# Altium schematic symbol library DDR5_Nucleo_Shield_Symbols.SchLib: 37 symbols
Pins are listed as number, name and electrical type; pins without a type are passive.

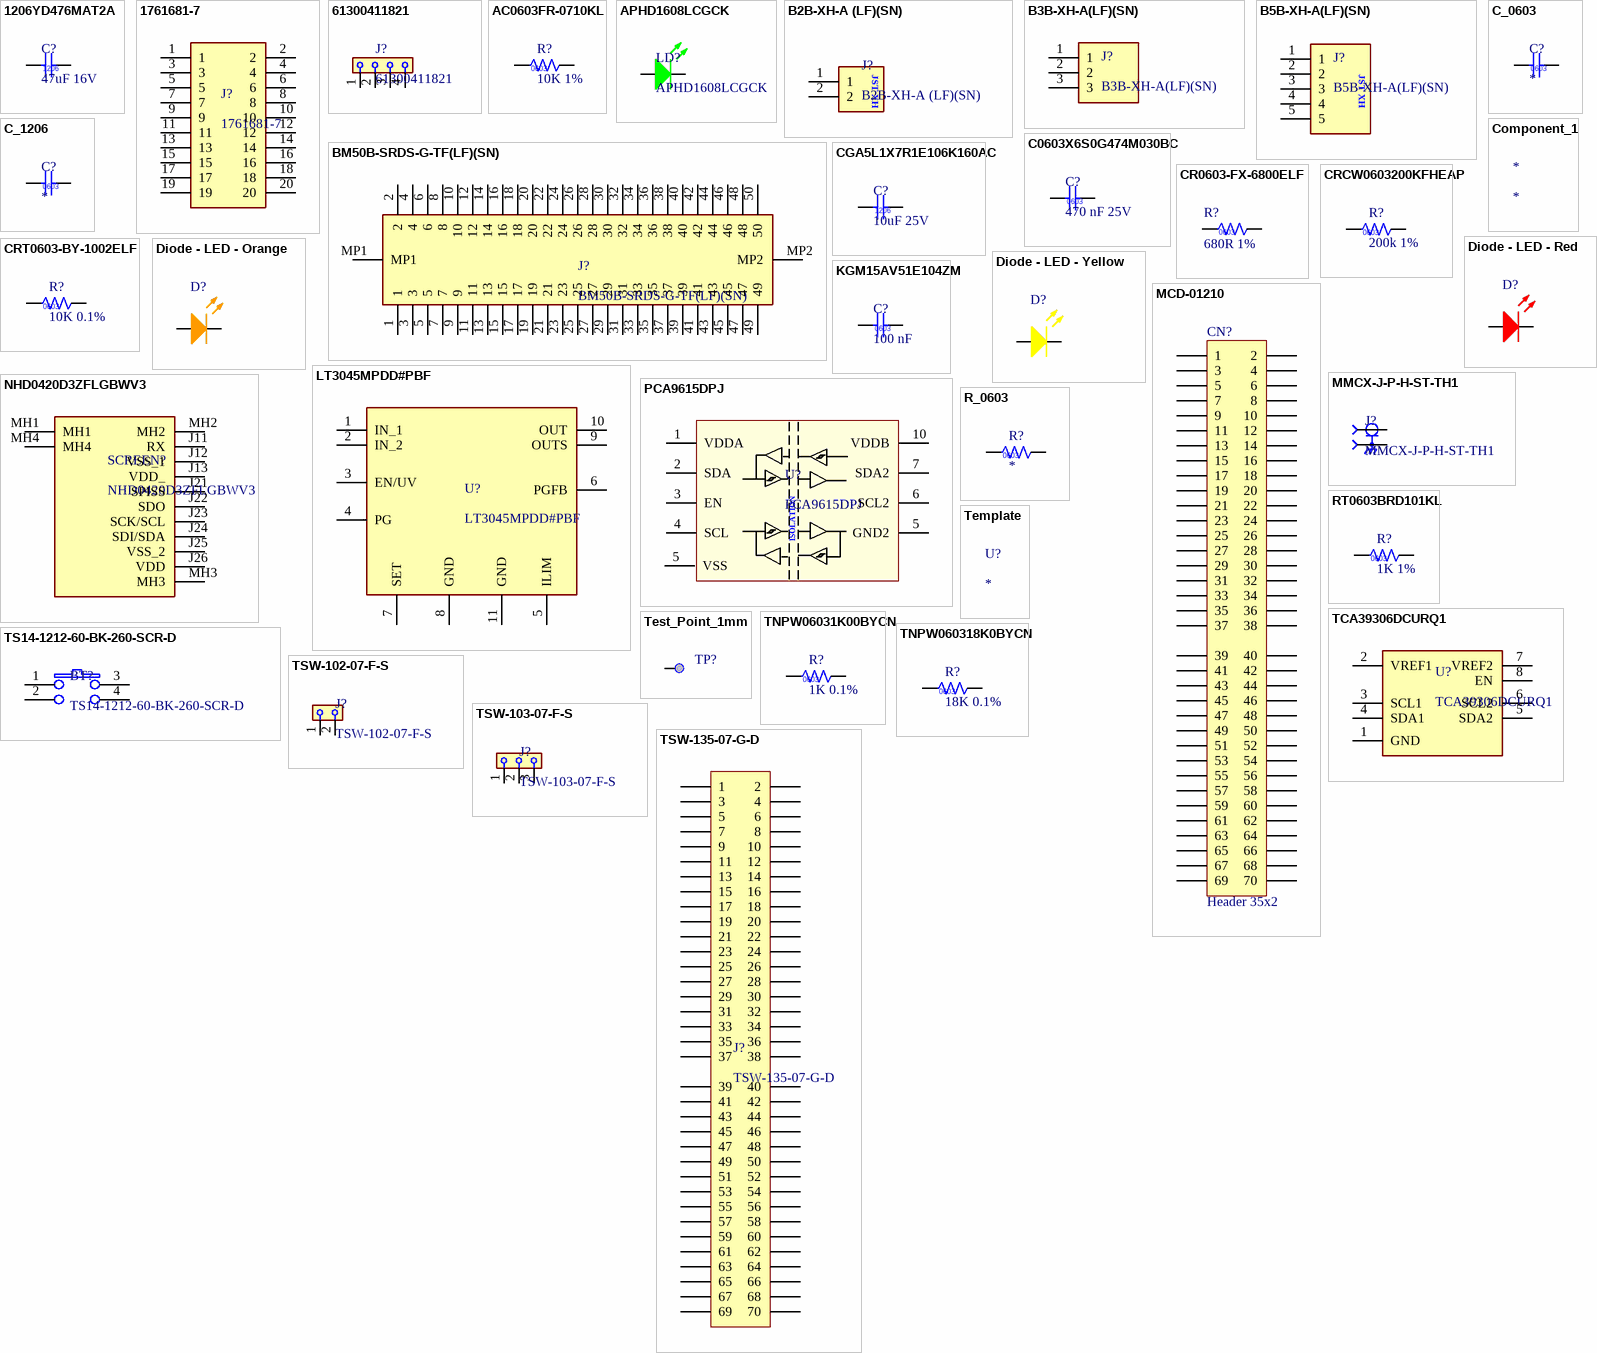
[diagram p0: symbols 1206YD476MAT2A to TSW-135-07-G-D]

## 1206YD476MAT2A
designator C?, comment 47uF 16V
Condensadores de cerámica multicapa (MLCC- SMD/SMT) KGM31HR51C476MU NEW GLOBAL PN 16V 47uF X A 581-KGM31HR51C476MU; Manufacturer: KYOCERA AVX; Manufacturer Part Number: 1206YD476MAT2A; DrownBy: Xavier Rocher; Package: 1206; Supplier 1: Digikey; Supplier  Part Number 1: 4155127; Supplier 2: Mouser; Supplier  Part Number 2: 581-1206YD476MAT2A; Automotive: https://datasheets.kyocera-avx.com/cx5r-KGM.pdf; Value: 47uF 16V
footprint CC/NM 1206 (Chip Capacitor, 2-Leads, Body 3,1x1,6mm, IPC High Density)
pins: 1, 2

## 1761681-7
designator J?
Headers & Wire Housings IDC CONNECTOR; Manufacturer: TE Connectivity; DrownBy: Xavier Rocher; Datasheet: https://www.te.com/commerce/DocumentDelivery/DDEController?Action=srchrtrv&DocNm=1761681&DocType=Customer+Drawing&DocLang=English&PartCntxt=1761681-7&DocFormat=pdf; Package: 0603; Supplier 1: Farnell; Supplier  Part Number 1: 4299113; Supplier 2: Mouser; Supplier  Part Number 2: 571-1761681-7; Manufacturer Part Number: 1761681-7; Value: 1761681-7
pins: 1, 2, 3, 4, 5, 6, 7, 8, 9, 10, 11, 12, 13, 14, 15, 16, 17, 18, 19, 20

## 61300411821
designator J?
2.54mm Pin Header 4 pins; Manufacturer: SAMTEC; Manufacturer Part Number: Wurth Elektronik; DrownBy: Xavier Rocher; Datasheet: https://www.we-online.com/components/products/datasheet/61300411821.pdf; Package: 0603; Supplier 1: Farnell; Supplier  Part Number 1: 2505043; Supplier 2: Mouser; Supplier  Part Number 2: 710-61300411821; Value: 61300411821
footprint 61300411821
pins: 1, 2, 3, 4

## AC0603FR-0710KL
designator R?, comment 10K 1%
Manufacturer: YAGEO; Manufacturer Part Number: AC0603FR-0710KL; DrownBy: Xavier Rocher; Package: 0603; Supplier 1: Farnell; Supplier  Part Number 1: 2363472; Supplier 2: Mouser; Supplier  Part Number 2: 603-AC0603FR-0710KL; Value: 10K 1%
footprint CC/NM 0603 (Chip Capacitor, 2-Leads, Body 1,6x0,8mm, IPC High Density)
pins: 1, 2

## APHD1608LCGCK
designator LD?
Green Light Emitting Diode; Manufacturer: Kingbright; DrownBy: Xavier Rocher; Datasheet: https://www.kingbrightusa.com/images/catalog/SPEC/APHD1608LCGCK.pdf; Package: 0603; Supplier 1: Digikey; Supplier  Part Number 1: 754-2031-2-ND; Supplier 2: Mouser; Supplier  Part Number 2: 604-APHD1608LCGCK; Manufacturer Part Number: APHD1608LCGCK; Automotive: No; Value: APHD1608LCGCK
footprint LED/0603/GREEN (LED 0603 Package Green Colour)
pins: 1 A, 2 K

## B2B-XH-A (LF)(SN)
designator J?
Alojamientos de cables y cabecera 2.54MM CLASSIC PCB HDR STRIP; Manufacturer: JST; DrownBy: Xavier Rocher; Datasheet: https://www.farnell.com/datasheets/2057209.pdf?_gl=1*1fl0mut*_gcl_aw*R0NMLjE3NzI0NTg0MDAuQ2p3S0NBaUFoNVhOQmhBQUVpd0FfQnU4RlFpaGh0aTJCR0F1SXBlQ2pXMWtFYmlZc2JraDRpajgydjZyT2lxVUUtZHBLLW80X0NoNy1Sb0NSZjhRQXZEX0J3RQ..*_gcl_au*MjEwMjY0Mzg0MC4xNzcyNDM5MTYx; Package: XH; Supplier 1: Farnell; Supplier  Part Number 1: 1516276; Supplier 2: Mouser; Supplier  Part Number 2: 306-B2BXHALFSNP; Manufacturer Part Number: B2B-XH-A (LF)(SN); Value: B2B-XH-A (LF)(SN)
footprint JST_XH_2V
pins: 1, 2
text: JST XH

## B3B-XH-A(LF)(SN)
designator J?
Alojamientos de cables y cabecera XH HEADER (TOP); Manufacturer: JST; DrownBy: Xavier Rocher; Package: XH; Supplier 1: Farnell; Supplier  Part Number 1: 1516277; Supplier 2: Mouser; Supplier  Part Number 2: 306-B3BXHALFSNP; Manufacturer Part Number: B3B-XH-A(LF)(SN); Automotive: https://www.mouser.es/datasheet/3/1070/1/eXH.pdf; Value: B3B-XH-A(LF)(SN)
footprint JST_XH_3V
pins: 1, 2, 3

## B5B-XH-A(LF)(SN)
designator J?
Alojamientos de cables y cabecera XH HEADER (TOP); Manufacturer: JST; DrownBy: Xavier Rocher; Package: XH; Supplier 1: Farnell; Supplier  Part Number 1: 1516281; Supplier 2: Mouser; Supplier  Part Number 2: 306-B5BXHALFSN; Manufacturer Part Number: B5B-XH-A(LF)(SN); Automotive: https://www.mouser.es/datasheet/3/1070/1/eXH.pdf; Value: B5B-XH-A(LF)(SN)
footprint JST_XH_5V
pins: 1, 2, 3, 4, 5
text: JST XH

## BM50B-SRDS-G-TF(LF)(SN)
designator J?
Manufacturer: JST; DrownBy: Xavier Rocher; Datasheet: https://www.farnell.com/datasheets/2085439.pdf?_gl=1*149c80b*_gcl_aw*R0NMLjE3NzI0MzkxNjIuQ2p3S0NBaUFoNVhOQmhBQUVpd0FfQnU4RlZpZGN3SFZkTmhUaGpab0lwT1FoQkFLZGxhWW9IVVdZQjN2WlhqdGU5dFd2US1sQTZFMy14b0NDLUVRQXZEX0J3RQ..*_gcl_au*MjEwMjY0Mzg0MC4xNzcyNDM5MTYx; Package: BM50B Series; Supplier 1: Farnell; Supplier  Part Number 1: 2399332; Supplier 2: Mouser; Supplier  Part Number 2: 306-BM50BSRDSGTFLFSN; Manufacturer Part Number: BM50B-SRDS-G-TF(LF)(SN); Value: BM50B-SRDS-G-TF(LF)(SN)
footprint BM50BSRDSGTFLFSN
pins: 1, 2, 3, 4, 5, 6, 7, 8, 9, 10, 11, 12, 13, 14, 15, 16, 17, 18, 19, 20, 21, 22, 23, 24, 25, 26, 27, 28, 29, 30, 31, 32, 33, 34, 35, 36, 37, 38, 39, 40, 41, 42, 43, 44, 45, 46, 47, 48, 49, 50, MP1, MP2

## C0603X6S0G474M030BC
designator C?, comment 470 nF 25V
Condensadores de cerámica multicapa (MLCC- SMD/SMT) 0201 4VDC 0.47uF 20% X6S 0.3mm; Manufacturer: TDK; Manufacturer Part Number: C0603X6S0G474M030BC; DrownBy: Xavier Rocher; Datasheet: https://product.tdk.com/system/files/dam/doc/product/capacitor/ceramic/mlcc/catalog/mlcc_commercial_general_en.pdf; Package: 0603; Supplier 1: Digikey; Supplier  Part Number 1: 4171987; Supplier 2: Mouser; Supplier  Part Number 2: 810-C0603X6S0G474MBC; Value: 470 nF 25V
footprint CC/NM 0603 (Chip Capacitor, 2-Leads, Body 1,6x0,8mm, IPC High Density)
pins: 1, 2

## C_0603
designator C?
Manufacturer: Kingbright; DrownBy: Xavier Rocher; Datasheet: https://www.mouser.es/datasheet/3/308/1/APHD1608LCGCK.pdf; Package: 0603; Supplier 1: Digikey; Supplier  Part Number 1: 754-2031-2-ND; Supplier 2: Mouser; Supplier  Part Number 2: 604-APHD1608LCGCK; Value: *
pins: 1, 2

## C_1206
designator C?
DrownBy: Xavier Rocher; Package: 1206; Supplier 1: Digikey; Supplier 2: Mouser; Value: *
pins: 1, 2
text: 0603

## CGA5L1X7R1E106K160AC
designator C?, comment 10uF 25V
Condensadores de cerámica multicapa (MLCC- SMD/SMT) CGA 1206 25V 10uF X7R 10% AEC-Q200; Manufacturer: TDK; Manufacturer Part Number: CGA5L1X7R1E106K160AC; DrownBy: Xavier Rocher; Package: 1206; Supplier 1: Digikey; Supplier  Part Number 1: 2458327; Supplier 2: Mouser; Supplier  Part Number 2: 810-CGA5L1X7R1E106K; Automotive: https://www.farnell.com/datasheets/4520416.pdf?_gl=1*1qw350c*_gcl_aw*R0NMLjE3NzI0NTg0MDAuQ2p3S0NBaUFoNVhOQmhBQUVpd0FfQnU4RlFpaGh0aTJCR0F1SXBlQ2pXMWtFYmlZc2JraDRpajgydjZyT2lxVUUtZHBLLW80X0NoNy1Sb0NSZjhRQXZEX0J3RQ..*_gcl_au*MjEwMjY0Mzg0MC4xNzcyNDM5MTYx; Value: 10uF 25V
footprint CC/NM 1206 (Chip Capacitor, 2-Leads, Body 3,1x1,6mm, IPC High Density)
pins: 1, 2

## Component_1
designator *

## CR0603-FX-6800ELF
designator R?, comment 680R 1%
Resistores de película gruesa - SMD 680 ohm 1%; Manufacturer: BOURNS; Manufacturer Part Number: CR0603-FX-6800ELF; DrownBy: Xavier Rocher; Datasheet: https://eu.mouser.com/datasheet/3/40/1/cr.pdf; Package: 0603; Supplier 1: Farnell; Supplier  Part Number 1: 4014380; Supplier 2: Mouser; Supplier  Part Number 2: 652-CR0603FX-6800ELF; Automotive: No; Value: 680R 1%
footprint CC/NM 0603 (Chip Capacitor, 2-Leads, Body 1,6x0,8mm, IPC High Density)
pins: 1, 2

## CRCW0603200KFHEAP
designator R?, comment 200k 1%
Resistores de película gruesa - SMD D11/CRCW0603-P 50 200K 1% ET1 e3; Manufacturer Part Number: CRCW0603200KFHEAP; DrownBy: Xavier Rocher; Package: 0603; Supplier 1: Digikey; Supplier  Part Number 1: CRCW0603200KFHEAP-ND; Supplier 2: Mouser; Supplier  Part Number 2: 71-CRCW0603200KFHEAP; Value: 200k 1%
footprint CC/NM 0603 (Chip Capacitor, 2-Leads, Body 1,6x0,8mm, IPC High Density)
pins: 1, 2

## CRT0603-BY-1002ELF
designator R?, comment 10K 0.1%
Thin Film Resistors - SMD 1/10watts 10K .1%; Manufacturer: Bourns; Manufacturer Part Number: CRT0603-BY-1002ELF; DrownBy: Xavier Rocher; Datasheet: https://4donline.ihs.com/images/VipMasterIC/IC/VISH/VISH-S-A0025054536/VISH-S-A0025054537-1.pdf?hkey=6D3A4C79FDBF58556ACFDE234799DDF0; Package: 0603; Supplier 1: Farnell; Supplier  Part Number 1: 2008310; Supplier 2: Mouser; Supplier  Part Number 2: 652-CRT0603BY1002ELF; Automotive: Yes; Value: 10K 0.1%
footprint CC/NM 0603 (Chip Capacitor, 2-Leads, Body 1,6x0,8mm, IPC High Density)
pins: 1, 2

## Diode - LED - Orange
designator D?  (value not drawn)
Light Emitting Diode
pins: 1 A, 2 K

## Diode - LED - Red
designator D?  (value not drawn)
Light Emitting Diode
pins: 1 A, 2 K

## Diode - LED - Yellow
designator D?  (value not drawn)
Light Emitting Diode
pins: 1 A, 2 K

## KGM15AV51E104ZM
designator C?, comment 100 nF
/ 0.1 µF -20%, +80% 25V Ceramic Capacitor Y5V (F) 0603 (1608 Metric); Manufacturer: KYOCERA AVX; Manufacturer Part Number: KGM15AV51E104ZM; DrownBy: Xavier Rocher; Datasheet: https://datasheets.kyocera-avx.com/KGM_Y5V.pdf; Package: 0603; Supplier 1: Digikey; Supplier  Part Number 1: 581-KGM15AV51E104ZM; Supplier 2: Mouser; Supplier  Part Number 2: 478-KGM15AV51E104ZMTR-ND; Value: 100 nF
footprint CC/NM 0603 (Chip Capacitor, 2-Leads, Body 1,6x0,8mm, IPC High Density)
pins: 1, 2

## LT3045MPDD#PBF
designator U?
20V, 500mA, Ultralow Noise, Ultrahigh PSRR Linear Regulator; Manufacturer: Analog Devices; DrownBy: Xavier Rocher; Datasheet: https://www.analog.com/media/en/technical-documentation/data-sheets/lt3045.pdf; Package: DFN-10; Supplier 1: Farnell; Supplier  Part Number 1: 4027559; Supplier 2: Mouser; Supplier  Part Number 2: 584-LT3045MPDD#PBF; Manufacturer Part Number: LT3045MPDD#PBF; Automotive: Yes; Value: LT3045MPDD#PBF
footprint SON50P300X300X80-11N
pins: 1 IN_1 (power), 2 IN_2 (power), 3 EN/UV, 4 PG, 5 ILIM, 6 PGFB, 7 SET, 8 GND (power), 9 OUTS, 10 OUT, 11 GND (power)

## MCD-01210
designator CN?, comment Header 35x2
Header, 35x2, 2,54mm, VR, TH, Height 5.84mm/2.54mm; Internal_Part_Number: MCD-01210; Part_Type: Connector; Manufacturer_Part_Number: TSW-135-07-x-D; Manufacturer: SAMTEC; Provided_By: SUBCO; Status: Released; ComponentLink1Description: Datasheet; ComponentLink1URL: http://tunmcdsvn.tun.st.com/Component_Datasheet_Library/Trunk/Connectors/Samtec_TSW-HTSW-series; ECCN_US: n/a; ECCN_EU: n/a; Value: Header 35x2
footprint CON_SAMTEC_TSW-135-07-X-D
pins: 1, 2, 3, 4, 5, 6, 7, 8, 9, 10, 11, 12, 13, 14, 15, 16, 17, 18, 19, 20, 21, 22, 23, 24, 25, 26, 27, 28, 29, 30, 31, 32, 33, 34, 35, 36, 37, 38, 39, 40, 41, 42, 43, 44, 45, 46, 47, 48, 49, 50, 51, 52, 53, 54, 55, 56, 57, 58, 59, 60, 61, 62, 63, 64, 65, 66, 67, 68, 69, 70
1 alternate drawing of the same symbol

## MMCX-J-P-H-ST-TH1
designator J?
RF Connectors / Coaxial Connectors 50 OHM MMCX JACK OR PLUG; Manufacturer: Samtec Inc.; DrownBy: Xavier Rocher; Datasheet: https://mm.digikey.com/Volume0/opasdata/d220001/medias/docus/6129/mmcx-j-p-x-st-th1-mkt.pdf; Package: 0603; Supplier 1: Digikey; Supplier  Part Number 1: SAM10617-ND; Supplier 2: Mouser; Supplier  Part Number 2: 200-MMCXJPHSTTH1; Manufacturer Part Number: MMCX-J-P-H-ST-TH1; Value: MMCX-J-P-H-ST-TH1
footprint SAMTEC_MMCX-J-P-H-ST-TH1
pins: 1, S1 2, S2 2, S3 2, S4 2

## NHD0420D3ZFLGBWV3
designator SCREEN?
LCD Character Display Modules & Accessories 4 x 20 STN-GRAY 98.0 x 60.0; Manufacturer: Newhaven Display; DrownBy: Xavier Rocher; Datasheet: https://newhavendisplay.com/content/specs/NHD-0420D3Z-FL-GBW-V3.pdf; Package: 0603; Supplier 1: RSComponents; Supplier  Part Number 1: https://es.rs-online.com/web/p/displays-monocromos-lcd/0205024; Supplier 2: Mouser; Supplier  Part Number 2: 763-0420D3ZFLGBW-V3; Manufacturer Part Number: NHD0420D3ZFLGBWV3; Value: NHD0420D3ZFLGBWV3
footprint NHD0420D3ZFLGBWV3
pins: J11 RX, J12 VSS_1, J13 VDD_, J21 SPISS, J22 SDO, J23 SCK/SCL, J24 SDI/SDA, J25 VSS_2, J26 VDD, MH1, MH2, MH3, MH4

## PCA9615DPJ
designator U?
2-channel multipoint Fast-mode Plus differential I2C-bus / buffer with hot-swap logic; Datasheet: https://www.nxp.com/docs/en/data-sheet/PCA9615.pdf; Manufacturer Part Number: PCA9615DPJ; Supplier 1: Farnell; Supplier 2: Mouser; Supplier Part Number 1: 2775967; Supplier Part Number 2: 771-PCA9615DPJ; Value: PCA9615DPJ
footprint SOIC127P1030X265-16N (SOIC, 16-Leads, Body 10,30x7,50mm, Pitch 1,27mm, IPC Medium Density)
pins: 1 VDDA, 2 SDA, 3 EN, 4 SCL, 5 GND2, 5 VSS, 6 SCL2, 7 SDA2, 10 VDDB
text: ISOLATION

## R_0603
designator R?
DrownBy: Xavier Rocher; Package: 0603; Supplier 1: Farnell; Supplier 2: Mouser; Value: *
footprint CC/NM 0603 (Chip Capacitor, 2-Leads, Body 1,6x0,8mm, IPC High Density)
pins: 1, 2

## RT0603BRD101KL
designator R?, comment 1K 1%
Manufacturer: YAGEO; Manufacturer Part Number: RT0603BRD101KL; DrownBy: Xavier Rocher; Package: 0603; Supplier 1: Farnell; Supplier  Part Number 1: 3496584; Supplier 2: Mouser; Supplier  Part Number 2: 603-RT0603BRD101KL; Value: 1K 1%
footprint CC/NM 0603 (Chip Capacitor, 2-Leads, Body 1,6x0,8mm, IPC High Density)
pins: 1, 2

## TCA39306DCURQ1
designator U?
Manufacturer: TI; DrownBy: Xavier Rocher; Datasheet: https://www.ti.com/lit/ds/symlink/tca39306-q1.pdf?ts=1772335428960; Package: VSSOP-8; Supplier 1: Digikey; Supplier  Part Number 1: 296-TCA39306DCURQ1TR-ND; Supplier 2: Mouser; Supplier  Part Number 2: 595-TCA39306DCURQ1; Manufacturer Part Number: TCA39306DCURQ1; Automotive: Yes; Value: TCA39306DCURQ1
footprint SOP50P310X90-8N
pins: 1 GND, 2 VREF1, 3 SCL1, 4 SDA1, 5 SDA2, 6 SCL2, 7 VREF2, 8 EN

## Template
designator U?
DrownBy: Xavier Rocher; Package: 0603; Supplier 1: Farnell; Supplier 2: Mouser; Value: *

## Test_Point_1mm
designator TP?, comment Test Point  (value not drawn)  (no BOM)
Test Point 1mm; Internal_Part_Number: MCD-00074; Part_Type: Mechanical; Status: Released; Manufacturer_Part_Number: n/a; Manufacturer: n/a; ComponentLink1Description: Datasheet; ComponentLink1URL: http://na; Provided_By: n/a; ECCN_US: n/a; ECCN_EU: n/a
footprint TP_SMD_1MM
pins: 1

## TNPW06031K00BYCN
designator R?, comment 1K 0.1%
Resistores de película fina - SMD TNPW-0603 1K 0.1% T-13 R52; Manufacturer: Vishay; Manufacturer Part Number: TNPW06031K00BYCN; DrownBy: Xavier Rocher; Datasheet: https://4donline.ihs.com/images/VipMasterIC/IC/VISH/VISH-S-A0025054536/VISH-S-A0025054537-1.pdf?hkey=6D3A4C79FDBF58556ACFDE234799DDF0; Package: 0603; Supplier 1: Digikey; Supplier  Part Number 1: TNPW06031K00BYCN-ND; Supplier 2: Mouser; Supplier  Part Number 2: 71-TNPW060318K0BYCN; Automotive: Yes; Value: 1K 0.1%
footprint CC/NM 0603 (Chip Capacitor, 2-Leads, Body 1,6x0,8mm, IPC High Density)
pins: 1, 2

## TNPW060318K0BYCN
designator R?, comment 18K 0.1%
Resistencia SMD de Tipo Chip, 18 kohm, ± 0.1%, 125 mW, 0603 [Métrica 1608], Película Delgada; Manufacturer: Vishay; Manufacturer Part Number: TNPW060318K0BYCN; DrownBy: Xavier Rocher; Datasheet: https://4donline.ihs.com/images/VipMasterIC/IC/VISH/VISH-S-A0025054536/VISH-S-A0025054537-1.pdf?hkey=6D3A4C79FDBF58556ACFDE234799DDF0; Package: 0603; Supplier 1: Farnell; Supplier  Part Number 1: 4140054; Supplier 2: Mouser; Supplier  Part Number 2: 71-TNPW060318K0BYCN; Automotive: Yes; Value: 18K 0.1%
footprint CC/NM 0603 (Chip Capacitor, 2-Leads, Body 1,6x0,8mm, IPC High Density)
pins: 1, 2

## TS14-1212-60-BK-260-SCR-D
designator BT?
Interruptores táctiles 12 x 12 mm 6 mm 260 gf Short Crimped Black Through Hole SPST; Manufacturer: Same Sky; DrownBy: Xavier Rocher; Datasheet: https://www.mouser.es/datasheet/3/6118/1/ts14.pdf; Package: Through Hole; Supplier 1: Digikey; Supplier  Part Number 1: 2223-TS14-1212-60-BK-260-SCR-D-ND; Supplier 2: Mouser; Supplier  Part Number 2: 179-TS14121260260SCR; Manufacturer Part Number: TS14-1212-60-BK-260-SCR-D; Value: TS14-1212-60-BK-260-SCR-D
footprint TS14121260BK260SCRD
pins: 1, 2, 3, 4

## TSW-102-07-F-S
designator J?
Alojamientos de cables y cabecera 2.54MM CLASSIC PCB HDR STRIP; Manufacturer: SAMTEC; DrownBy: Xavier Rocher; Datasheet: https://www.farnell.com/datasheets/1701645.pdf?_gl=1*1o3ly18*_gcl_aw*R0NMLjE3NzI0NTg0MDAuQ2p3S0NBaUFoNVhOQmhBQUVpd0FfQnU4RlFpaGh0aTJCR0F1SXBlQ2pXMWtFYmlZc2JraDRpajgydjZyT2lxVUUtZHBLLW80X0NoNy1Sb0NSZjhRQXZEX0J3RQ..*_gcl_au*MjEwMjY0Mzg0MC4xNzcyNDM5MTYx; Package: 0603; Supplier 1: Farnell; Supplier  Part Number 1: 2779661; Supplier 2: Mouser; Supplier  Part Number 2: 200-TSW10207FS; Manufacturer Part Number: TSW-102-07-F-S; Value: TSW-102-07-F-S
footprint HEADER/VERT/1X2/M/P2.54 (Connector; Header; Pitch 2.54mm; 2 Position Male)
pins: 1, 2

## TSW-103-07-F-S
designator J?
Pin Header, Unshrouded, Board-to-Board, 2.54 mm, 1 Rows, 3 Contacts, Through Hole, TSW; Manufacturer: SAMTEC; DrownBy: Xavier Rocher; Datasheet: https://www.farnell.com/datasheets/1701645.pdf?_gl=1*1o3ly18*_gcl_aw*R0NMLjE3NzI0NTg0MDAuQ2p3S0NBaUFoNVhOQmhBQUVpd0FfQnU4RlFpaGh0aTJCR0F1SXBlQ2pXMWtFYmlZc2JraDRpajgydjZyT2lxVUUtZHBLLW80X0NoNy1Sb0NSZjhRQXZEX0J3RQ..*_gcl_au*MjEwMjY0Mzg0MC4xNzcyNDM5MTYx; Package: 0603; Supplier 1: Farnell; Supplier  Part Number 1: 2505043; Supplier 2: Mouser; Supplier  Part Number 2: 200-TSW10307FS; Manufacturer Part Number: TSW-103-07-F-S; Value: TSW-103-07-F-S
footprint HEADER/VERT/1X3/M/P2.54 (Connector; Header; Pitch 2.54mm; 3 Position Male)
pins: 1, 2, 3

## TSW-135-07-G-D
designator J?
Header, 35x2, 2,54mm, VR, TH, Height 5.84mm/2.54mm; Manufacturer: Samtec; DrownBy: Xavier Rocher; Package: 0603; Supplier 1: Farnell; Supplier  Part Number 1: 3664498; Supplier 2: Mouser; Supplier  Part Number 2: 200-TSW13507GD; Manufacturer Part Number: TSW-135-07-G-D; Value: TSW-135-07-G-D
footprint CON_SAMTEC_TSW-135-07-X-D
pins: 1, 2, 3, 4, 5, 6, 7, 8, 9, 10, 11, 12, 13, 14, 15, 16, 17, 18, 19, 20, 21, 22, 23, 24, 25, 26, 27, 28, 29, 30, 31, 32, 33, 34, 35, 36, 37, 38, 39, 40, 41, 42, 43, 44, 45, 46, 47, 48, 49, 50, 51, 52, 53, 54, 55, 56, 57, 58, 59, 60, 61, 62, 63, 64, 65, 66, 67, 68, 69, 70